# EAGLE library part LTC2381 (library di_ic)
Linear Technology - LTC2381-16 is 16-Bit, 250ksps, Low Power SAR ADC with Serial Interface http://cds.linear.com/docs/Datasheet/238116f.pdf
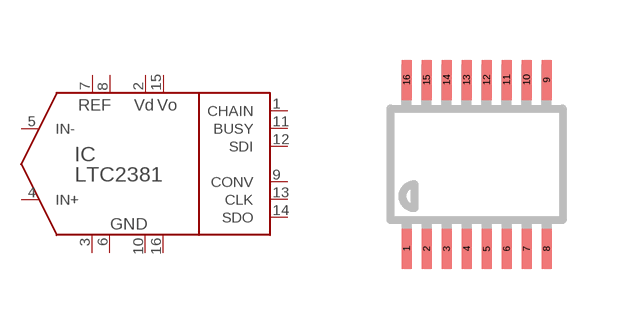
[diagram p59: symbol with the pads of MSOP16; footprint MSOP16]

Designator prefix IC

## LTC2381 (DIGIKEY: LTC2381CMS-16#PBF-ND)  [MSOP16]
1  CHAIN
2  VDD  pwr
3  GND  pwr
4  IN+  in
5  IN-  in
6  GND  pwr
7  REF  pwr
8  REF  pwr
9  CONV
10  GND  pwr
11  BUSY
12  SDI
13  CLK
14  SDO
15  OVDD  pwr
16  GND  pwr

## Footprint MSOP16 (pad centres in mm)
smd 0.25 x 1: 1 -1.75,-2.113; 2 -1.25,-2.113; 3 -0.75,-2.113; 4 -0.25,-2.113; 5 0.25,-2.113; 6 0.75,-2.113; 7 1.25,-2.113; 8 1.75,-2.113; 9 1.75,2.113; 10 1.25,2.113; 11 0.75,2.113; 12 0.25,2.113; 13 -0.25,2.113; 14 -0.75,2.113; 15 -1.25,2.113; 16 -1.75,2.113